# EAGLE library part B6B-PH-K (library Connectors_jst)
HEADER
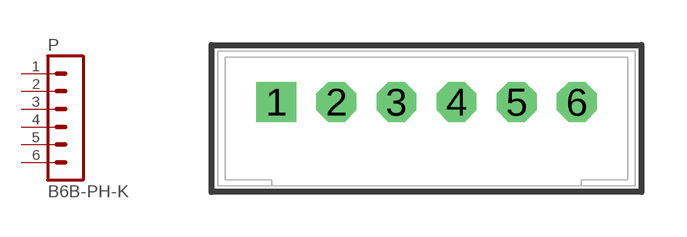
[diagram p0: symbol with the pads of B6B-PH-K; footprint B6B-PH-K]

Designator prefix P

## B6B-PH-K  [B6B-PH-K]
1  1  pas
2  2  pas
3  3  pas
4  4  pas
5  5  pas
6  6  pas

## Footprint B6B-PH-K (pad centres in mm)
HEADER
drill 0.813 square: 1 -5,0
drill 0.813 octagon: 2 -3,0; 3 -1,0; 4 1,0; 5 3,0; 6 5,0